# Altium integrated library Oscillator - Crystal.IntLib: 422 symbols (part 1 of 7)
Pins are listed as number, name and electrical type; pins without a type are passive.

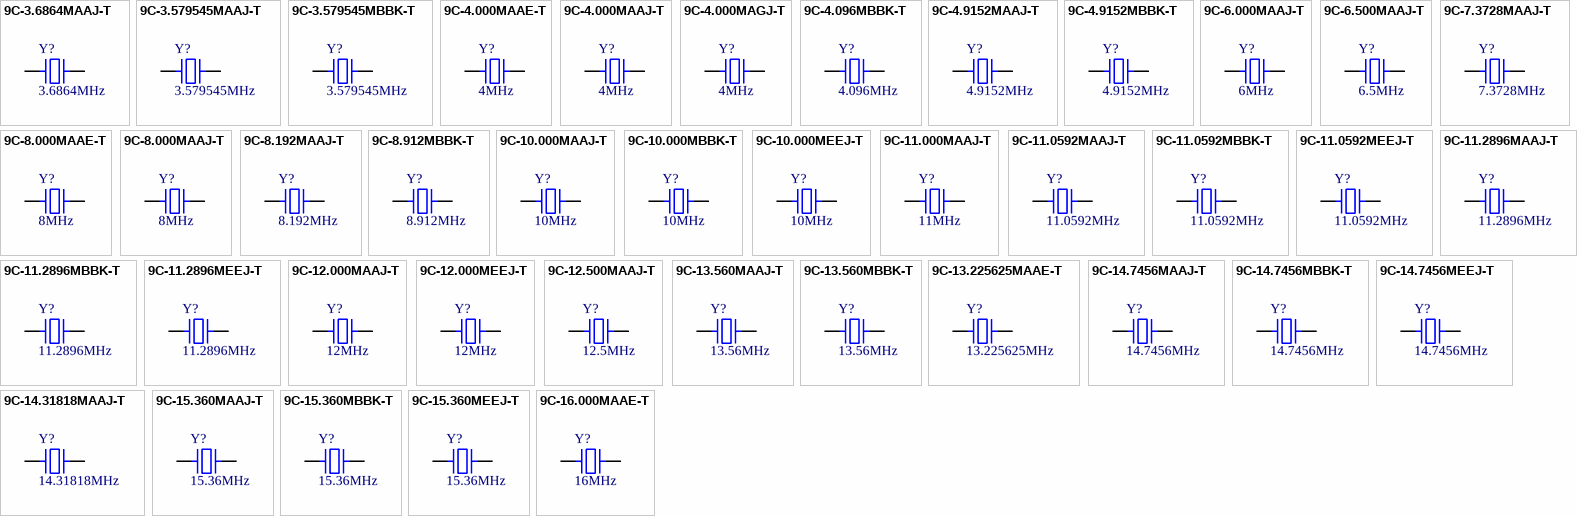
[diagram p0: symbols 9C-3.6864MAAJ-T to 9C-16.000MAAE-T]

## 9C-3.6864MAAJ-T
designator Y?, comment 3.6864MHz
CRYSTAL 3.6864MHZ 18PF SMD; Part Number: 9C-3.6864MAAJ-T; Manufacturer: TXC CORPORATION; Frequency Stability: 30ppm; ESR: 150 Ohm; Operating Mode: Fundamental; PartId: 8671; Supplier 1: Digi-Key; Supplier Part Number 1: 887-1041-2-ND; ComponentLink1Description: Datasheet; ComponentLink1URL: http://www.txccrystal.com/images/pdf/9c.pdf; ComponentLink2Description: Digi-Key Listing; ComponentLink2URL: https://www.digikey.com/product-detail/en/9C-3.6864MAAJ-T/887-1041-2-ND/2118725; Price: 0.224; Type: MHz Crystal; Device Package: HC49/US; Series: 9C; Frequency: 3.6864MHz; Frequency Tolerance: 30ppm; Load Capacitance: 18pF
footprint TXC 9C
pins: 1, 2

## 9C-3.579545MAAJ-T
designator Y?, comment 3.579545MHz
CRYSTAL 3.579545MHZ 18PF SMD; Part Number: 9C-3.579545MAAJ-T; Manufacturer: TXC CORPORATION; Frequency Stability: 30ppm; ESR: 200 Ohm; Operating Mode: Fundamental; PartId: 8668; Supplier 1: Digi-Key; Supplier Part Number 1: 887-1040-2-ND; ComponentLink1Description: Datasheet; ComponentLink1URL: http://www.txccrystal.com/images/pdf/9c.pdf; ComponentLink2Description: Digi-Key Listing; ComponentLink2URL: https://www.digikey.com/product-detail/en/9C-3.579545MAAJ-T/887-1040-2-ND/2118724; Price: 0.224; Type: MHz Crystal; Device Package: HC49/US; Series: 9C; Frequency: 3.579545MHz; Frequency Tolerance: 30ppm; Load Capacitance: 18pF
footprint TXC 9C
pins: 1, 2

## 9C-3.579545MBBK-T
designator Y?, comment 3.579545MHz
CRYSTAL 3.579545MHZ 20PF SMD; Part Number: 9C-3.579545MBBK-T; Manufacturer: TXC CORPORATION; Frequency Stability: 50ppm; ESR: 200 Ohm; Operating Mode: Fundamental; PartId: 8690; Supplier 1: Digi-Key; Supplier Part Number 1: 887-2450-2-ND; ComponentLink1Description: Datasheet; ComponentLink1URL: http://www.txccrystal.com/images/pdf/9c.pdf; ComponentLink2Description: Digi-Key Listing; ComponentLink2URL: https://www.digikey.com/product-detail/en/9C-3.579545MBBK-T/887-2450-2-ND/3521935; Price: 0.192; Type: MHz Crystal; Device Package: HC-49S; Series: 9C; Frequency: 3.579545MHz; Frequency Tolerance: 50ppm; Load Capacitance: 20pF
footprint TXC 9C
pins: 1, 2

## 9C-4.000MAAE-T
designator Y?, comment 4MHz
CRYSTAL 4.0000MHZ 12PF SMD; Part Number: 9C-4.000MAAE-T; Manufacturer: TXC CORPORATION; Frequency Stability: 30ppm; ESR: 150 Ohm; Operating Mode: Fundamental; PartId: 8715; Supplier 1: Digi-Key; Supplier Part Number 1: 887-2462-2-ND; ComponentLink1Description: Datasheet; ComponentLink1URL: http://www.txccrystal.com/images/pdf/9c.pdf; ComponentLink2Description: Digi-Key Listing; ComponentLink2URL: https://www.digikey.com/product-detail/en/9C-4.000MAAE-T/887-2462-2-ND/3674386; Price: 0.208; Type: MHz Crystal; Device Package: HC-49S; Series: 9C; Frequency: 4MHz; Frequency Tolerance: 30ppm; Load Capacitance: 12pF
footprint TXC 9C
pins: 1, 2

## 9C-4.000MAAJ-T
designator Y?, comment 4MHz
CRYSTAL 4.0000MHZ 18PF SMD; Part Number: 9C-4.000MAAJ-T; Manufacturer: TXC CORPORATION; Frequency Stability: 30ppm; ESR: 150 Ohm; Operating Mode: Fundamental; PartId: 8669; Supplier 1: Digi-Key; Supplier Part Number 1: 887-1042-2-ND; ComponentLink1Description: Datasheet; ComponentLink1URL: http://www.txccrystal.com/images/pdf/9c.pdf; ComponentLink2Description: Digi-Key Listing; ComponentLink2URL: https://www.digikey.com/product-detail/en/9C-4.000MAAJ-T/887-1042-2-ND/2118726; Price: 0.224; Type: MHz Crystal; Device Package: HC49/US; Series: 9C; Frequency: 4MHz; Frequency Tolerance: 30ppm; Load Capacitance: 18pF
footprint TXC 9C
pins: 1, 2

## 9C-4.000MAGJ-T
designator Y?, comment 4MHz
CRYSTAL 4.0000MHZ 18PF SMD; Part Number: 9C-4.000MAGJ-T; Manufacturer: TXC CORPORATION; Frequency Stability: 50ppm; Frequency Tolerance: 30ppm; ESR: 150 Ohm; Operating Mode: Fundamental; PartId: 8714; Supplier 1: Digi-Key; Supplier Part Number 1: 887-2463-2-ND; ComponentLink1Description: Datasheet; ComponentLink1URL: http://www.txccrystal.com/images/pdf/9c.pdf; ComponentLink2Description: Digi-Key Listing; ComponentLink2URL: https://www.digikey.com/product-detail/en/9C-4.000MAGJ-T/887-2463-2-ND/4475373; Price: 0.208; Type: MHz Crystal; Device Package: HC-49S; Series: 9C; Frequency: 4MHz; Load Capacitance: 18pF
footprint TXC 9C
pins: 1, 2

## 9C-4.096MBBK-T
designator Y?, comment 4.096MHz
CRYSTAL 4.0960MHZ 20PF SMD; Part Number: 9C-4.096MBBK-T; Manufacturer: TXC CORPORATION; Frequency Stability: 50ppm; ESR: 150 Ohm; Operating Mode: Fundamental; PartId: 8702; Supplier 1: Digi-Key; Supplier Part Number 1: 887-1828-2-ND; ComponentLink1Description: Datasheet; ComponentLink1URL: http://www.txccrystal.com/images/pdf/9c.pdf; ComponentLink2Description: Digi-Key Listing; ComponentLink2URL: https://www.digikey.com/product-detail/en/9C-4.096MBBK-T/887-1828-2-ND/3585856; Price: 0.192; Type: MHz Crystal; Device Package: HC-49S; Series: 9C; Frequency: 4.096MHz; Frequency Tolerance: 50ppm; Load Capacitance: 20pF
footprint TXC 9C
pins: 1, 2

## 9C-4.9152MAAJ-T
designator Y?, comment 4.9152MHz
CRYSTAL 4.9152MHZ 18PF SMD; Part Number: 9C-4.9152MAAJ-T; Manufacturer: TXC CORPORATION; Frequency Stability: 30ppm; ESR: 150 Ohm; Operating Mode: Fundamental; PartId: 8719; Supplier 1: Digi-Key; Supplier Part Number 1: 887-1044-2-ND; ComponentLink1Description: Datasheet; ComponentLink1URL: http://www.txccrystal.com/images/pdf/9c.pdf; ComponentLink2Description: Digi-Key Listing; ComponentLink2URL: https://www.digikey.com/product-detail/en/9C-4.9152MAAJ-T/887-1044-2-ND/2118728; Price: 0.224; Type: MHz Crystal; Device Package: HC49/US; Series: 9C; Frequency: 4.9152MHz; Frequency Tolerance: 30ppm; Load Capacitance: 18pF
footprint TXC 9C
pins: 1, 2

## 9C-4.9152MBBK-T
designator Y?, comment 4.9152MHz
CRYSTAL 4.9152MHZ 20PF SMD; Part Number: 9C-4.9152MBBK-T; Manufacturer: TXC CORPORATION; Frequency Stability: 50ppm; ESR: 150 Ohm; Operating Mode: Fundamental; PartId: 8687; Supplier 1: Digi-Key; Supplier Part Number 1: 887-1829-2-ND; ComponentLink1Description: Datasheet; ComponentLink1URL: http://www.txccrystal.com/images/pdf/9c.pdf; ComponentLink2Description: Digi-Key Listing; ComponentLink2URL: https://www.digikey.com/product-detail/en/9C-4.9152MBBK-T/887-1829-2-ND/3585865; Price: 0.192; Type: MHz Crystal; Device Package: HC-49S; Series: 9C; Frequency: 4.9152MHz; Frequency Tolerance: 50ppm; Load Capacitance: 20pF
footprint TXC 9C
pins: 1, 2

## 9C-6.000MAAJ-T
designator Y?, comment 6MHz
CRYSTAL 6.0000MHZ 18PF SMD; Part Number: 9C-6.000MAAJ-T; Manufacturer: TXC CORPORATION; Frequency Stability: 30ppm; ESR: 80 Ohm; Operating Mode: Fundamental; PartId: 8678; Supplier 1: Digi-Key; Supplier Part Number 1: 887-1045-2-ND; ComponentLink1Description: Datasheet; ComponentLink1URL: http://www.txccrystal.com/images/pdf/9c.pdf; ComponentLink2Description: Digi-Key Listing; ComponentLink2URL: https://www.digikey.com/product-detail/en/9C-6.000MAAJ-T/887-1045-2-ND/2118729; Price: 0.224; Type: MHz Crystal; Device Package: HC49/US; Series: 9C; Frequency: 6MHz; Frequency Tolerance: 30ppm; Load Capacitance: 18pF
footprint TXC 9C
pins: 1, 2

## 9C-6.500MAAJ-T
designator Y?, comment 6.5MHz
CRYSTAL 6.5000MHZ 18PF SMD; Part Number: 9C-6.500MAAJ-T; Manufacturer: TXC CORPORATION; Frequency Stability: 30ppm; ESR: 80 Ohm; Operating Mode: Fundamental; PartId: 8716; Supplier 1: Digi-Key; Supplier Part Number 1: 887-2470-2-ND; ComponentLink1Description: Datasheet; ComponentLink1URL: http://www.txccrystal.com/images/pdf/9c.pdf; ComponentLink2Description: Digi-Key Listing; ComponentLink2URL: https://www.digikey.com/product-detail/en/9C-6.500MAAJ-T/887-2470-2-ND/4475377; Price: 0.224; Type: MHz Crystal; Device Package: HC-49S; Series: 9C; Frequency: 6.5MHz; Frequency Tolerance: 30ppm; Load Capacitance: 18pF
footprint TXC 9C
pins: 1, 2

## 9C-7.3728MAAJ-T
designator Y?, comment 7.3728MHz
CRYSTAL 7.3728MHZ 18PF SMD; Part Number: 9C-7.3728MAAJ-T; Manufacturer: TXC CORPORATION; Frequency Stability: 30ppm; ESR: 80 Ohm; Operating Mode: Fundamental; PartId: 8679; Supplier 1: Digi-Key; Supplier Part Number 1: 887-1046-2-ND; ComponentLink1Description: Datasheet; ComponentLink1URL: http://www.txccrystal.com/images/pdf/9c.pdf; ComponentLink2Description: Digi-Key Listing; ComponentLink2URL: https://www.digikey.com/product-detail/en/9C-7.3728MAAJ-T/887-1046-2-ND/2118730; Price: 0.224; Type: MHz Crystal; Device Package: HC49/US; Series: 9C; Frequency: 7.3728MHz; Frequency Tolerance: 30ppm; Load Capacitance: 18pF
footprint TXC 9C
pins: 1, 2

## 9C-8.000MAAE-T
designator Y?, comment 8MHz
CRYSTAL 8.0000MHZ 12PF SMD; Part Number: 9C-8.000MAAE-T; Manufacturer: TXC CORPORATION; Frequency Stability: 30ppm; ESR: 80 Ohm; Operating Mode: Fundamental; PartId: 8665; Supplier 1: Digi-Key; Supplier Part Number 1: 887-2473-2-ND; ComponentLink1Description: Datasheet; ComponentLink1URL: http://www.txccrystal.com/images/pdf/9c.pdf; ComponentLink2Description: Digi-Key Listing; ComponentLink2URL: https://www.digikey.com/product-detail/en/9C-8.000MAAE-T/887-2473-2-ND/3674400; Price: 0.208; Type: MHz Crystal; Device Package: HC-49S; Series: 9C; Frequency: 8MHz; Frequency Tolerance: 30ppm; Load Capacitance: 12pF
footprint TXC 9C
pins: 1, 2

## 9C-8.000MAAJ-T
designator Y?, comment 8MHz
CRYSTAL 8.0000MHZ 18PF SMD; Part Number: 9C-8.000MAAJ-T; Manufacturer: TXC CORPORATION; Frequency Stability: 30ppm; ESR: 80 Ohm; Operating Mode: Fundamental; PartId: 8661; Supplier 1: Digi-Key; Supplier Part Number 1: 887-1048-2-ND; ComponentLink1Description: Datasheet; ComponentLink1URL: http://www.txccrystal.com/images/pdf/9c.pdf; ComponentLink2Description: Digi-Key Listing; ComponentLink2URL: https://www.digikey.com/product-detail/en/9C-8.000MAAJ-T/887-1048-2-ND/2118732; Price: 0.224; Type: MHz Crystal; Device Package: HC49/US; Series: 9C; Frequency: 8MHz; Frequency Tolerance: 30ppm; Load Capacitance: 18pF
footprint TXC 9C
pins: 1, 2

## 9C-8.192MAAJ-T
designator Y?, comment 8.192MHz
CRYSTAL 8.1920MHZ 18PF SMD; Part Number: 9C-8.192MAAJ-T; Manufacturer: TXC CORPORATION; Frequency Stability: 30ppm; ESR: 80 Ohm; Operating Mode: Fundamental; PartId: 8676; Supplier 1: Digi-Key; Supplier Part Number 1: 887-1417-2-ND; ComponentLink1Description: Datasheet; ComponentLink1URL: http://www.txccrystal.com/images/pdf/9c.pdf; ComponentLink2Description: Digi-Key Listing; ComponentLink2URL: https://www.digikey.com/product-detail/en/9C-8.192MAAJ-T/887-1417-2-ND/2207837; Price: 0.224; Type: MHz Crystal; Device Package: HC49/US; Series: 9C; Frequency: 8.192MHz; Frequency Tolerance: 30ppm; Load Capacitance: 18pF
footprint TXC 9C
pins: 1, 2

## 9C-8.912MBBK-T
designator Y?, comment 8.912MHz
CRYSTAL 8.9120MHZ 20PF SMD; Part Number: 9C-8.912MBBK-T; Manufacturer: TXC CORPORATION; Frequency Stability: 50ppm; ESR: 80 Ohm; Operating Mode: Fundamental; PartId: 8696; Supplier 1: Digi-Key; Supplier Part Number 1: 887-1830-2-ND; ComponentLink1Description: Datasheet; ComponentLink1URL: http://www.txccrystal.com/images/pdf/9c.pdf; ComponentLink2Description: Digi-Key Listing; ComponentLink2URL: https://www.digikey.com/product-detail/en/9C-8.912MBBK-T/887-1830-2-ND/3585861; Price: 0.192; Type: MHz Crystal; Device Package: HC-49S; Series: 9C; Frequency: 8.912MHz; Frequency Tolerance: 50ppm; Load Capacitance: 20pF
footprint TXC 9C
pins: 1, 2

## 9C-10.000MAAJ-T
designator Y?, comment 10MHz
CRYSTAL 10.0000MHZ 18PF SMD; Part Number: 9C-10.000MAAJ-T; Manufacturer: TXC CORPORATION; Frequency Stability: 30ppm; ESR: 40 Ohm; Operating Mode: Fundamental; PartId: 8677; Supplier 1: Digi-Key; Supplier Part Number 1: 887-1050-2-ND; ComponentLink1Description: Datasheet; ComponentLink1URL: http://www.txccrystal.com/images/pdf/9c.pdf; ComponentLink2Description: Digi-Key Listing; ComponentLink2URL: https://www.digikey.com/product-detail/en/9C-10.000MAAJ-T/887-1050-2-ND/2118734; Price: 0.224; Type: MHz Crystal; Device Package: HC49/US; Series: 9C; Frequency: 10MHz; Frequency Tolerance: 30ppm; Load Capacitance: 18pF
footprint TXC 9C
pins: 1, 2

## 9C-10.000MBBK-T
designator Y?, comment 10MHz
CRYSTAL 10.0000MHZ 20PF SMD; Part Number: 9C-10.000MBBK-T; Manufacturer: TXC CORPORATION; Frequency Stability: 50ppm; ESR: 40 Ohm; Operating Mode: Fundamental; PartId: 8700; Supplier 1: Digi-Key; Supplier Part Number 1: 887-1941-2-ND; ComponentLink1Description: Datasheet; ComponentLink1URL: http://www.txccrystal.com/images/pdf/9c.pdf; ComponentLink2Description: Digi-Key Listing; ComponentLink2URL: https://www.digikey.com/product-detail/en/9C-10.000MBBK-T/887-1941-2-ND/3522075; Price: 0.192; Type: MHz Crystal; Device Package: HC-49S; Series: 9C; Frequency: 10MHz; Frequency Tolerance: 50ppm; Load Capacitance: 20pF
footprint TXC 9C
pins: 1, 2

## 9C-10.000MEEJ-T
designator Y?, comment 10MHz
CRYSTAL 10.0000MHZ 18PF SMD; Part Number: 9C-10.000MEEJ-T; Manufacturer: TXC CORPORATION; Frequency Stability: 10ppm; ESR: 40 Ohm; Operating Mode: Fundamental; PartId: 8682; Supplier 1: Digi-Key; Supplier Part Number 1: 887-1265-2-ND; ComponentLink1Description: Datasheet; ComponentLink1URL: http://www.txccrystal.com/images/pdf/9c-accuracy.pdf; ComponentLink2Description: Digi-Key Listing; ComponentLink2URL: https://www.digikey.com/product-detail/en/9C-10.000MEEJ-T/887-1265-2-ND/2207685; Price: 0.288; Type: MHz Crystal; Device Package: HC49/US; Series: 9C; Frequency: 10MHz; Frequency Tolerance: 10ppm; Load Capacitance: 18pF
footprint TXC 9C
pins: 1, 2

## 9C-11.000MAAJ-T
designator Y?, comment 11MHz
CRYSTAL 11.0000MHZ 18PF SMD; Part Number: 9C-11.000MAAJ-T; Manufacturer: TXC CORPORATION; Frequency Stability: 30ppm; ESR: 40 Ohm; Operating Mode: Fundamental; PartId: 8717; Supplier 1: Digi-Key; Supplier Part Number 1: 887-2410-2-ND; ComponentLink1Description: Datasheet; ComponentLink1URL: http://www.txccrystal.com/images/pdf/9c.pdf; ComponentLink2Description: Digi-Key Listing; ComponentLink2URL: https://www.digikey.com/product-detail/en/9C-11.000MAAJ-T/887-2410-2-ND/4475344; Price: 0.224; Type: MHz Crystal; Device Package: HC-49S; Series: 9C; Frequency: 11MHz; Frequency Tolerance: 30ppm; Load Capacitance: 18pF
footprint TXC 9C
pins: 1, 2

## 9C-11.0592MAAJ-T
designator Y?, comment 11.0592MHz
CRYSTAL 11.0592MHZ 18PF SMD; Part Number: 9C-11.0592MAAJ-T; Manufacturer: TXC CORPORATION; Frequency Stability: 30ppm; ESR: 40 Ohm; Operating Mode: Fundamental; PartId: 8720; Supplier 1: Digi-Key; Supplier Part Number 1: 887-1051-2-ND; ComponentLink1Description: Datasheet; ComponentLink1URL: http://www.txccrystal.com/images/pdf/9c.pdf; ComponentLink2Description: Digi-Key Listing; ComponentLink2URL: https://www.digikey.com/product-detail/en/9C-11.0592MAAJ-T/887-1051-2-ND/2118735; Price: 0.224; Type: MHz Crystal; Device Package: HC49/US; Series: 9C; Frequency: 11.0592MHz; Frequency Tolerance: 30ppm; Load Capacitance: 18pF
footprint TXC 9C
pins: 1, 2

## 9C-11.0592MBBK-T
designator Y?, comment 11.0592MHz
CRYSTAL 11.0592MHZ 20PF SMD; Part Number: 9C-11.0592MBBK-T; Manufacturer: TXC CORPORATION; Frequency Stability: 50ppm; ESR: 40 Ohm; Operating Mode: Fundamental; PartId: 8688; Supplier 1: Digi-Key; Supplier Part Number 1: 887-1942-2-ND; ComponentLink1Description: Datasheet; ComponentLink1URL: http://www.txccrystal.com/images/pdf/9c.pdf; ComponentLink2Description: Digi-Key Listing; ComponentLink2URL: https://www.digikey.com/product-detail/en/9C-11.0592MBBK-T/887-1942-2-ND/3522081; Price: 0.192; Type: MHz Crystal; Device Package: HC-49S; Series: 9C; Frequency: 11.0592MHz; Frequency Tolerance: 50ppm; Load Capacitance: 20pF
footprint TXC 9C
pins: 1, 2

## 9C-11.0592MEEJ-T
designator Y?, comment 11.0592MHz
CRYSTAL 11.0592MHZ 18PF SMD; Part Number: 9C-11.0592MEEJ-T; Manufacturer: TXC CORPORATION; Frequency Stability: 10ppm; ESR: 40 Ohm; Operating Mode: Fundamental; PartId: 8727; Supplier 1: Digi-Key; Supplier Part Number 1: 887-1266-2-ND; ComponentLink1Description: Datasheet; ComponentLink1URL: http://www.txccrystal.com/images/pdf/9c-accuracy.pdf; ComponentLink2Description: Digi-Key Listing; ComponentLink2URL: https://www.digikey.com/product-detail/en/9C-11.0592MEEJ-T/887-1266-2-ND/2207686; Price: 0.288; Type: MHz Crystal; Device Package: HC49/US; Series: 9C; Frequency: 11.0592MHz; Frequency Tolerance: 10ppm; Load Capacitance: 18pF
footprint TXC 9C
pins: 1, 2

## 9C-11.2896MAAJ-T
designator Y?, comment 11.2896MHz
CRYSTAL 11.2896MHZ 18PF SMD; Part Number: 9C-11.2896MAAJ-T; Manufacturer: TXC CORPORATION; Frequency Stability: 30ppm; ESR: 40 Ohm; Operating Mode: Fundamental; PartId: 8672; Supplier 1: Digi-Key; Supplier Part Number 1: 887-1052-2-ND; ComponentLink1Description: Datasheet; ComponentLink1URL: http://www.txccrystal.com/images/pdf/9c.pdf; ComponentLink2Description: Digi-Key Listing; ComponentLink2URL: https://www.digikey.com/product-detail/en/9C-11.2896MAAJ-T/887-1052-2-ND/2118736; Price: 0.224; Type: MHz Crystal; Device Package: HC49/US; Series: 9C; Frequency: 11.2896MHz; Frequency Tolerance: 30ppm; Load Capacitance: 18pF
footprint TXC 9C
pins: 1, 2

## 9C-11.2896MBBK-T
designator Y?, comment 11.2896MHz
CRYSTAL 11.2896MHZ 20PF SMD; Part Number: 9C-11.2896MBBK-T; Manufacturer: TXC CORPORATION; Frequency Stability: 50ppm; ESR: 40 Ohm; Operating Mode: Fundamental; PartId: 8701; Supplier 1: Digi-Key; Supplier Part Number 1: 887-2412-2-ND; ComponentLink1Description: Datasheet; ComponentLink1URL: http://www.txccrystal.com/images/pdf/9c.pdf; ComponentLink2Description: Digi-Key Listing; ComponentLink2URL: https://www.digikey.com/product-detail/en/9C-11.2896MBBK-T/887-2412-2-ND/3522085; Price: 0.192; Type: MHz Crystal; Device Package: HC-49S; Series: 9C; Frequency: 11.2896MHz; Frequency Tolerance: 50ppm; Load Capacitance: 20pF
footprint TXC 9C
pins: 1, 2

## 9C-11.2896MEEJ-T
designator Y?, comment 11.2896MHz
CRYSTAL 11.2896MHZ 18PF SMD; Part Number: 9C-11.2896MEEJ-T; Manufacturer: TXC CORPORATION; Frequency Stability: 10ppm; ESR: 40 Ohm; Operating Mode: Fundamental; PartId: 8729; Supplier 1: Digi-Key; Supplier Part Number 1: 887-1267-2-ND; ComponentLink1Description: Datasheet; ComponentLink1URL: http://www.txccrystal.com/images/pdf/9c-accuracy.pdf; ComponentLink2Description: Digi-Key Listing; ComponentLink2URL: https://www.digikey.com/product-detail/en/9C-11.2896MEEJ-T/887-1267-2-ND/2207687; Price: 0.288; Type: MHz Crystal; Device Package: HC49/US; Series: 9C; Frequency: 11.2896MHz; Frequency Tolerance: 10ppm; Load Capacitance: 18pF
footprint TXC 9C
pins: 1, 2

## 9C-12.000MAAJ-T
designator Y?, comment 12MHz
CRYSTAL 12.0000MHZ 18PF SMD; Part Number: 9C-12.000MAAJ-T; Manufacturer: TXC CORPORATION; Frequency Stability: 30ppm; ESR: 40 Ohm; Operating Mode: Fundamental; PartId: 8658; Supplier 1: Digi-Key; Supplier Part Number 1: 887-1053-2-ND; ComponentLink1Description: Datasheet; ComponentLink1URL: http://www.txccrystal.com/images/pdf/9c.pdf; ComponentLink2Description: Digi-Key Listing; ComponentLink2URL: https://www.digikey.com/product-detail/en/9C-12.000MAAJ-T/887-1053-2-ND/2118737; Price: 0.224; Type: MHz Crystal; Device Package: HC49/US; Series: 9C; Frequency: 12MHz; Frequency Tolerance: 30ppm; Load Capacitance: 18pF
footprint TXC 9C
pins: 1, 2

## 9C-12.000MEEJ-T
designator Y?, comment 12MHz
CRYSTAL 12.0000MHZ 18PF SMD; Part Number: 9C-12.000MEEJ-T; Manufacturer: TXC CORPORATION; Frequency Stability: 10ppm; ESR: 40 Ohm; Operating Mode: Fundamental; PartId: 8683; Supplier 1: Digi-Key; Supplier Part Number 1: 887-1268-2-ND; ComponentLink1Description: Datasheet; ComponentLink1URL: http://www.txccrystal.com/images/pdf/9c-accuracy.pdf; ComponentLink2Description: Digi-Key Listing; ComponentLink2URL: https://www.digikey.com/product-detail/en/9C-12.000MEEJ-T/887-1268-2-ND/2207688; Price: 0.288; Type: MHz Crystal; Device Package: HC49/US; Series: 9C; Frequency: 12MHz; Frequency Tolerance: 10ppm; Load Capacitance: 18pF
footprint TXC 9C
pins: 1, 2

## 9C-12.500MAAJ-T
designator Y?, comment 12.5MHz
CRYSTAL 12.5000MHZ 18PF SMD; Part Number: 9C-12.500MAAJ-T; Manufacturer: TXC CORPORATION; Frequency Stability: 30ppm; ESR: 40 Ohm; Operating Mode: Fundamental; PartId: 8725; Supplier 1: Digi-Key; Supplier Part Number 1: 887-2416-2-ND; ComponentLink1Description: Datasheet; ComponentLink1URL: http://www.txccrystal.com/images/pdf/9c.pdf; ComponentLink2Description: Digi-Key Listing; ComponentLink2URL: https://www.digikey.com/product-detail/en/9C-12.500MAAJ-T/887-2416-2-ND/4475346; Price: 0.224; Type: MHz Crystal; Device Package: HC-49S; Series: 9C; Frequency: 12.5MHz; Frequency Tolerance: 30ppm; Load Capacitance: 18pF
footprint TXC 9C
pins: 1, 2

## 9C-13.560MAAJ-T
designator Y?, comment 13.56MHz
CRYSTAL 13.5600MHZ 18PF SMD; Part Number: 9C-13.560MAAJ-T; Manufacturer: TXC CORPORATION; Frequency Stability: 30ppm; ESR: 40 Ohm; Operating Mode: Fundamental; PartId: 8659; Supplier 1: Digi-Key; Supplier Part Number 1: 887-1055-2-ND; ComponentLink1Description: Datasheet; ComponentLink1URL: http://www.txccrystal.com/images/pdf/9c.pdf; ComponentLink2Description: Digi-Key Listing; ComponentLink2URL: https://www.digikey.com/product-detail/en/9C-13.560MAAJ-T/887-1055-2-ND/2118739; Price: 0.224; Type: MHz Crystal; Device Package: HC49/US; Series: 9C; Frequency: 13.56MHz; Frequency Tolerance: 30ppm; Load Capacitance: 18pF
footprint TXC 9C
pins: 1, 2

## 9C-13.560MBBK-T
designator Y?, comment 13.56MHz
CRYSTAL 13.5600MHZ 20PF SMD; Part Number: 9C-13.560MBBK-T; Manufacturer: TXC CORPORATION; Frequency Stability: 50ppm; ESR: 40 Ohm; Operating Mode: Fundamental; PartId: 8706; Supplier 1: Digi-Key; Supplier Part Number 1: 887-2420-2-ND; ComponentLink1Description: Datasheet; ComponentLink1URL: http://www.txccrystal.com/images/pdf/9c.pdf; ComponentLink2Description: Digi-Key Listing; ComponentLink2URL: https://www.digikey.com/product-detail/en/9C-13.560MBBK-T/887-2420-2-ND/3521926; Price: 0.192; Type: MHz Crystal; Device Package: HC-49S; Series: 9C; Frequency: 13.56MHz; Frequency Tolerance: 50ppm; Load Capacitance: 20pF
footprint TXC 9C
pins: 1, 2

## 9C-13.225625MAAE-T
designator Y?, comment 13.225625MHz
CRYSTAL 13.225625MHZ 12PF SMD; Part Number: 9C-13.225625MAAE-T; Manufacturer: TXC CORPORATION; Frequency Stability: 30ppm; ESR: 40 Ohm; Operating Mode: Fundamental; PartId: 8707; Supplier 1: Digi-Key; Supplier Part Number 1: 887-2418-2-ND; ComponentLink1Description: Datasheet; ComponentLink1URL: http://www.txccrystal.com/images/pdf/9c.pdf; ComponentLink2Description: Digi-Key Listing; ComponentLink2URL: https://www.digikey.com/product-detail/en/9C-13.225625MAAE-T/887-2418-2-ND/4475348; Price: 0.208; Type: MHz Crystal; Device Package: HC-49S; Series: 9C; Frequency: 13.225625MHz; Frequency Tolerance: 30ppm; Load Capacitance: 12pF
footprint TXC 9C
pins: 1, 2

## 9C-14.7456MAAJ-T
designator Y?, comment 14.7456MHz
CRYSTAL 14.7456MHZ 18PF SMD; Part Number: 9C-14.7456MAAJ-T; Manufacturer: TXC CORPORATION; Frequency Stability: 30ppm; ESR: 30 Ohm; Operating Mode: Fundamental; PartId: 8724; Supplier 1: Digi-Key; Supplier Part Number 1: 887-1057-2-ND; ComponentLink1Description: Datasheet; ComponentLink1URL: http://www.txccrystal.com/images/pdf/9c.pdf; ComponentLink2Description: Digi-Key Listing; ComponentLink2URL: https://www.digikey.com/product-detail/en/9C-14.7456MAAJ-T/887-1057-2-ND/2118741; Price: 0.224; Type: MHz Crystal; Device Package: HC49/US; Series: 9C; Frequency: 14.7456MHz; Frequency Tolerance: 30ppm; Load Capacitance: 18pF
footprint TXC 9C
pins: 1, 2

## 9C-14.7456MBBK-T
designator Y?, comment 14.7456MHz
CRYSTAL 14.7456MHZ 20PF SMD; Part Number: 9C-14.7456MBBK-T; Manufacturer: TXC CORPORATION; Frequency Stability: 50ppm; ESR: 30 Ohm; Operating Mode: Fundamental; PartId: 8704; Supplier 1: Digi-Key; Supplier Part Number 1: 887-1943-2-ND; ComponentLink1Description: Datasheet; ComponentLink1URL: http://www.txccrystal.com/images/pdf/9c.pdf; ComponentLink2Description: Digi-Key Listing; ComponentLink2URL: https://www.digikey.com/product-detail/en/9C-14.7456MBBK-T/887-1943-2-ND/3521950; Price: 0.192; Type: MHz Crystal; Device Package: HC-49S; Series: 9C; Frequency: 14.7456MHz; Frequency Tolerance: 50ppm; Load Capacitance: 20pF
footprint TXC 9C
pins: 1, 2

## 9C-14.7456MEEJ-T
designator Y?, comment 14.7456MHz
CRYSTAL 14.7456MHZ 18PF SMD; Part Number: 9C-14.7456MEEJ-T; Manufacturer: TXC CORPORATION; Frequency Stability: 10ppm; ESR: 30 Ohm; Operating Mode: Fundamental; PartId: 8726; Supplier 1: Digi-Key; Supplier Part Number 1: 887-1272-2-ND; ComponentLink1Description: Datasheet; ComponentLink1URL: http://www.txccrystal.com/images/pdf/9c-accuracy.pdf; ComponentLink2Description: Digi-Key Listing; ComponentLink2URL: https://www.digikey.com/product-detail/en/9C-14.7456MEEJ-T/887-1272-2-ND/2207692; Price: 0.288; Type: MHz Crystal; Device Package: HC49/US; Series: 9C; Frequency: 14.7456MHz; Frequency Tolerance: 10ppm; Load Capacitance: 18pF
footprint TXC 9C
pins: 1, 2

## 9C-14.31818MAAJ-T
designator Y?, comment 14.31818MHz
CRYSTAL 14.31818MHZ 18PF SMD; Part Number: 9C-14.31818MAAJ-T; Manufacturer: TXC CORPORATION; Frequency Stability: 30ppm; ESR: 30 Ohm; Operating Mode: Fundamental; PartId: 8723; Supplier 1: Digi-Key; Supplier Part Number 1: 887-1056-2-ND; ComponentLink1Description: Datasheet; ComponentLink1URL: http://www.txccrystal.com/images/pdf/9c.pdf; ComponentLink2Description: Digi-Key Listing; ComponentLink2URL: https://www.digikey.com/product-detail/en/9C-14.31818MAAJ-T/887-1056-2-ND/2118740; Price: 0.224; Type: MHz Crystal; Device Package: HC49/US; Series: 9C; Frequency: 14.31818MHz; Frequency Tolerance: 30ppm; Load Capacitance: 18pF
footprint TXC 9C
pins: 1, 2

## 9C-15.360MAAJ-T
designator Y?, comment 15.36MHz
CRYSTAL 15.3600MHZ 18PF SMD; Part Number: 9C-15.360MAAJ-T; Manufacturer: TXC CORPORATION; Frequency Stability: 30ppm; ESR: 30 Ohm; Operating Mode: Fundamental; PartId: 8692; Supplier 1: Digi-Key; Supplier Part Number 1: 887-1058-2-ND; ComponentLink1Description: Datasheet; ComponentLink1URL: http://www.txccrystal.com/images/pdf/9c.pdf; ComponentLink2Description: Digi-Key Listing; ComponentLink2URL: https://www.digikey.com/product-detail/en/9C-15.360MAAJ-T/887-1058-2-ND/2118742; Price: 0.224; Type: MHz Crystal; Device Package: HC49/US; Series: 9C; Frequency: 15.36MHz; Frequency Tolerance: 30ppm; Load Capacitance: 18pF
footprint TXC 9C
pins: 1, 2

## 9C-15.360MBBK-T
designator Y?, comment 15.36MHz
CRYSTAL 15.3600MHZ 20PF SMD; Part Number: 9C-15.360MBBK-T; Manufacturer: TXC CORPORATION; Frequency Stability: 50ppm; ESR: 30 Ohm; Operating Mode: Fundamental; PartId: 8703; Supplier 1: Digi-Key; Supplier Part Number 1: 887-1944-2-ND; ComponentLink1Description: Datasheet; ComponentLink1URL: http://www.txccrystal.com/images/pdf/9c.pdf; ComponentLink2Description: Digi-Key Listing; ComponentLink2URL: https://www.digikey.com/product-detail/en/9C-15.360MBBK-T/887-1944-2-ND/3521931; Price: 0.192; Type: MHz Crystal; Device Package: HC-49S; Series: 9C; Frequency: 15.36MHz; Frequency Tolerance: 50ppm; Load Capacitance: 20pF
footprint TXC 9C
pins: 1, 2

## 9C-15.360MEEJ-T
designator Y?, comment 15.36MHz
CRYSTAL 15.3600MHZ 18PF SMD; Part Number: 9C-15.360MEEJ-T; Manufacturer: TXC CORPORATION; Frequency Stability: 10ppm; ESR: 30 Ohm; Operating Mode: Fundamental; PartId: 8695; Supplier 1: Digi-Key; Supplier Part Number 1: 887-1273-2-ND; ComponentLink1Description: Datasheet; ComponentLink1URL: http://www.txccrystal.com/images/pdf/9c-accuracy.pdf; ComponentLink2Description: Digi-Key Listing; ComponentLink2URL: https://www.digikey.com/product-detail/en/9C-15.360MEEJ-T/887-1273-2-ND/2207693; Price: 0.288; Type: MHz Crystal; Device Package: HC49/US; Series: 9C; Frequency: 15.36MHz; Frequency Tolerance: 10ppm; Load Capacitance: 18pF
footprint TXC 9C
pins: 1, 2

## 9C-16.000MAAE-T
designator Y?, comment 16MHz
CRYSTAL 16.0000MHZ 12PF SMD; Part Number: 9C-16.000MAAE-T; Manufacturer: TXC CORPORATION; Frequency Stability: 30ppm; ESR: 30 Ohm; Operating Mode: Fundamental; PartId: 8666; Supplier 1: Digi-Key; Supplier Part Number 1: 887-2423-2-ND; ComponentLink1Description: Datasheet; ComponentLink1URL: http://www.txccrystal.com/images/pdf/9c.pdf; ComponentLink2Description: Digi-Key Listing; ComponentLink2URL: https://www.digikey.com/product-detail/en/9C-16.000MAAE-T/887-2423-2-ND/3674372; Price: 0.208; Type: MHz Crystal; Device Package: HC-49S; Series: 9C; Frequency: 16MHz; Frequency Tolerance: 30ppm; Load Capacitance: 12pF
footprint TXC 9C
pins: 1, 2

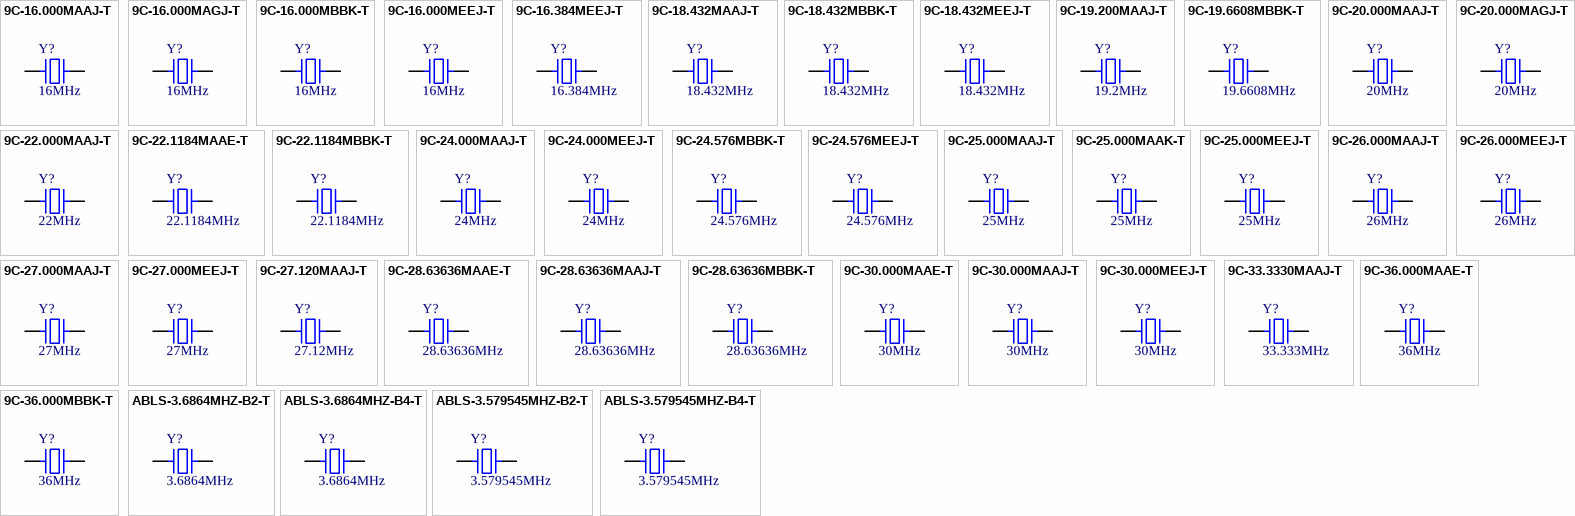
[diagram p1: symbols 9C-16.000MAAJ-T to ABLS-3.579545MHZ-B4-T]

## 9C-16.000MAAJ-T
designator Y?, comment 16MHz
CRYSTAL 16.0000MHZ 18PF SMD; Part Number: 9C-16.000MAAJ-T; Manufacturer: TXC CORPORATION; Frequency Stability: 30ppm; ESR: 30 Ohm; Operating Mode: Fundamental; PartId: 8662; Supplier 1: Digi-Key; Supplier Part Number 1: 887-1059-2-ND; ComponentLink1Description: Datasheet; ComponentLink1URL: http://www.txccrystal.com/images/pdf/9c.pdf; ComponentLink2Description: Digi-Key Listing; ComponentLink2URL: https://www.digikey.com/product-detail/en/9C-16.000MAAJ-T/887-1059-2-ND/2118743; Price: 0.224; Type: MHz Crystal; Device Package: HC49/US; Series: 9C; Frequency: 16MHz; Frequency Tolerance: 30ppm; Load Capacitance: 18pF
footprint TXC 9C
pins: 1, 2

## 9C-16.000MAGJ-T
designator Y?, comment 16MHz
CRYSTAL 16.0000MHZ 18PF SMD; Part Number: 9C-16.000MAGJ-T; Manufacturer: TXC CORPORATION; Frequency Stability: 50ppm; Frequency Tolerance: 30ppm; ESR: 30 Ohm; Operating Mode: Fundamental; PartId: 8691; Supplier 1: Digi-Key; Supplier Part Number 1: 887-2424-2-ND; ComponentLink1Description: Datasheet; ComponentLink1URL: http://www.txccrystal.com/images/pdf/9c.pdf; ComponentLink2Description: Digi-Key Listing; ComponentLink2URL: https://www.digikey.com/product-detail/en/9C-16.000MAGJ-T/887-2424-2-ND/4475352; Price: 0.208; Type: MHz Crystal; Device Package: HC-49S; Series: 9C; Frequency: 16MHz; Load Capacitance: 18pF
footprint TXC 9C
pins: 1, 2

## 9C-16.000MBBK-T
designator Y?, comment 16MHz
CRYSTAL 16.0000MHZ 20PF SMD; Part Number: 9C-16.000MBBK-T; Manufacturer: TXC CORPORATION; Frequency Stability: 50ppm; ESR: 30 Ohm; Operating Mode: Fundamental; PartId: 8664; Supplier 1: Digi-Key; Supplier Part Number 1: 887-2425-2-ND; ComponentLink1Description: Datasheet; ComponentLink1URL: http://www.txccrystal.com/images/pdf/9c.pdf; ComponentLink2Description: Digi-Key Listing; ComponentLink2URL: https://www.digikey.com/product-detail/en/9C-16.000MBBK-T/887-2425-2-ND/3521964; Price: 0.192; Type: MHz Crystal; Device Package: HC-49S; Series: 9C; Frequency: 16MHz; Frequency Tolerance: 50ppm; Load Capacitance: 20pF
footprint TXC 9C
pins: 1, 2

## 9C-16.000MEEJ-T
designator Y?, comment 16MHz
CRYSTAL 16.0000MHZ 18PF SMD; Part Number: 9C-16.000MEEJ-T; Manufacturer: TXC CORPORATION; Frequency Stability: 10ppm; ESR: 30 Ohm; Operating Mode: Fundamental; PartId: 8684; Supplier 1: Digi-Key; Supplier Part Number 1: 887-1274-2-ND; ComponentLink1Description: Datasheet; ComponentLink1URL: http://www.txccrystal.com/images/pdf/9c-accuracy.pdf; ComponentLink2Description: Digi-Key Listing; ComponentLink2URL: https://www.digikey.com/product-detail/en/9C-16.000MEEJ-T/887-1274-2-ND/2207694; Price: 0.288; Type: MHz Crystal; Device Package: HC49/US; Series: 9C; Frequency: 16MHz; Frequency Tolerance: 10ppm; Load Capacitance: 18pF
footprint TXC 9C
pins: 1, 2

## 9C-16.384MEEJ-T
designator Y?, comment 16.384MHz
CRYSTAL 16.3840MHZ 18PF SMD; Part Number: 9C-16.384MEEJ-T; Manufacturer: TXC CORPORATION; Frequency Stability: 10ppm; ESR: 30 Ohm; Operating Mode: Fundamental; PartId: 8685; Supplier 1: Digi-Key; Supplier Part Number 1: 887-1275-2-ND; ComponentLink1Description: Datasheet; ComponentLink1URL: http://www.txccrystal.com/images/pdf/9c-accuracy.pdf; ComponentLink2Description: Digi-Key Listing; ComponentLink2URL: https://www.digikey.com/product-detail/en/9C-16.384MEEJ-T/887-1275-2-ND/2207695; Price: 0.288; Type: MHz Crystal; Device Package: HC49/US; Series: 9C; Frequency: 16.384MHz; Frequency Tolerance: 10ppm; Load Capacitance: 18pF
footprint TXC 9C
pins: 1, 2

## 9C-18.432MAAJ-T
designator Y?, comment 18.432MHz
CRYSTAL 18.4320MHZ 18PF SMD; Part Number: 9C-18.432MAAJ-T; Manufacturer: TXC CORPORATION; Frequency Stability: 30ppm; ESR: 30 Ohm; Operating Mode: Fundamental; PartId: 8670; Supplier 1: Digi-Key; Supplier Part Number 1: 887-1061-2-ND; ComponentLink1Description: Datasheet; ComponentLink1URL: http://www.txccrystal.com/images/pdf/9c.pdf; ComponentLink2Description: Digi-Key Listing; ComponentLink2URL: https://www.digikey.com/product-detail/en/9C-18.432MAAJ-T/887-1061-2-ND/2118745; Price: 0.224; Type: MHz Crystal; Device Package: HC49/US; Series: 9C; Frequency: 18.432MHz; Frequency Tolerance: 30ppm; Load Capacitance: 18pF
footprint TXC 9C
pins: 1, 2

## 9C-18.432MBBK-T
designator Y?, comment 18.432MHz
CRYSTAL 18.4320MHZ 20PF SMD; Part Number: 9C-18.432MBBK-T; Manufacturer: TXC CORPORATION; Frequency Stability: 50ppm; ESR: 30 Ohm; Operating Mode: Fundamental; PartId: 8686; Supplier 1: Digi-Key; Supplier Part Number 1: 887-1945-2-ND; ComponentLink1Description: Datasheet; ComponentLink1URL: http://www.txccrystal.com/images/pdf/9c.pdf; ComponentLink2Description: Digi-Key Listing; ComponentLink2URL: https://www.digikey.com/product-detail/en/9C-18.432MBBK-T/887-1945-2-ND/3521937; Price: 0.192; Type: MHz Crystal; Device Package: HC-49S; Series: 9C; Frequency: 18.432MHz; Frequency Tolerance: 50ppm; Load Capacitance: 20pF
footprint TXC 9C
pins: 1, 2

## 9C-18.432MEEJ-T
designator Y?, comment 18.432MHz
CRYSTAL 18.4320MHZ 18PF SMD; Part Number: 9C-18.432MEEJ-T; Manufacturer: TXC CORPORATION; Frequency Stability: 10ppm; ESR: 30 Ohm; Operating Mode: Fundamental; PartId: 8730; Supplier 1: Digi-Key; Supplier Part Number 1: 887-1276-2-ND; ComponentLink1Description: Datasheet; ComponentLink1URL: http://www.txccrystal.com/images/pdf/9c-accuracy.pdf; ComponentLink2Description: Digi-Key Listing; ComponentLink2URL: https://www.digikey.com/product-detail/en/9C-18.432MEEJ-T/887-1276-2-ND/2207696; Price: 0.288; Type: MHz Crystal; Device Package: HC49/US; Series: 9C; Frequency: 18.432MHz; Frequency Tolerance: 10ppm; Load Capacitance: 18pF
footprint TXC 9C
pins: 1, 2

## 9C-19.200MAAJ-T
designator Y?, comment 19.2MHz
CRYSTAL 19.2000MHZ 18PF SMD; Part Number: 9C-19.200MAAJ-T; Manufacturer: TXC CORPORATION; Frequency Stability: 30ppm; ESR: 30 Ohm; Operating Mode: Fundamental; PartId: 8674; Supplier 1: Digi-Key; Supplier Part Number 1: 887-1062-2-ND; ComponentLink1Description: Datasheet; ComponentLink1URL: http://www.txccrystal.com/images/pdf/9c.pdf; ComponentLink2Description: Digi-Key Listing; ComponentLink2URL: https://www.digikey.com/product-detail/en/9C-19.200MAAJ-T/887-1062-2-ND/2118746; Price: 0.224; Type: MHz Crystal; Device Package: HC49/US; Series: 9C; Frequency: 19.2MHz; Frequency Tolerance: 30ppm; Load Capacitance: 18pF
footprint TXC 9C
pins: 1, 2

## 9C-19.6608MBBK-T
designator Y?, comment 19.6608MHz
CRYSTAL 19.6608MHZ 20PF SMD; Part Number: 9C-19.6608MBBK-T; Manufacturer: TXC CORPORATION; Frequency Stability: 50ppm; ESR: 30 Ohm; Operating Mode: Fundamental; PartId: 8698; Supplier 1: Digi-Key; Supplier Part Number 1: 887-1824-2-ND; ComponentLink1Description: Datasheet; ComponentLink1URL: http://www.txccrystal.com/images/pdf/9c.pdf; ComponentLink2Description: Digi-Key Listing; ComponentLink2URL: https://www.digikey.com/product-detail/en/9C-19.6608MBBK-T/887-1824-2-ND/3585874; Price: 0.192; Type: MHz Crystal; Device Package: HC-49S; Series: 9C; Frequency: 19.6608MHz; Frequency Tolerance: 50ppm; Load Capacitance: 20pF
footprint TXC 9C
pins: 1, 2

## 9C-20.000MAAJ-T
designator Y?, comment 20MHz
CRYSTAL 20.0000MHZ 18PF SMD; Part Number: 9C-20.000MAAJ-T; Manufacturer: TXC CORPORATION; Frequency Stability: 30ppm; ESR: 30 Ohm; Operating Mode: Fundamental; PartId: 8675; Supplier 1: Digi-Key; Supplier Part Number 1: 887-1063-2-ND; ComponentLink1Description: Datasheet; ComponentLink1URL: http://www.txccrystal.com/images/pdf/9c.pdf; ComponentLink2Description: Digi-Key Listing; ComponentLink2URL: https://www.digikey.com/product-detail/en/9C-20.000MAAJ-T/887-1063-2-ND/2118747; Price: 0.224; Type: MHz Crystal; Device Package: HC49/US; Series: 9C; Frequency: 20MHz; Frequency Tolerance: 30ppm; Load Capacitance: 18pF
footprint TXC 9C
pins: 1, 2

## 9C-20.000MAGJ-T
designator Y?, comment 20MHz
CRYSTAL 20.0000MHZ 18PF SMD; Part Number: 9C-20.000MAGJ-T; Manufacturer: TXC CORPORATION; Frequency Stability: 50ppm; Frequency Tolerance: 30ppm; ESR: 30 Ohm; Operating Mode: Fundamental; PartId: 8713; Supplier 1: Digi-Key; Supplier Part Number 1: 887-2433-2-ND; ComponentLink1Description: Datasheet; ComponentLink1URL: http://www.txccrystal.com/images/pdf/9c.pdf; ComponentLink2Description: Digi-Key Listing; ComponentLink2URL: https://www.digikey.com/product-detail/en/9C-20.000MAGJ-T/887-2433-2-ND/4475358; Price: 0.208; Type: MHz Crystal; Device Package: HC-49S; Series: 9C; Frequency: 20MHz; Load Capacitance: 18pF
footprint TXC 9C
pins: 1, 2

## 9C-22.000MAAJ-T
designator Y?, comment 22MHz
CRYSTAL 22.0000MHZ 18PF SMD; Part Number: 9C-22.000MAAJ-T; Manufacturer: TXC CORPORATION; Frequency Stability: 30ppm; ESR: 30 Ohm; Operating Mode: Fundamental; PartId: 8697; Supplier 1: Digi-Key; Supplier Part Number 1: 887-1064-2-ND; ComponentLink1Description: Datasheet; ComponentLink1URL: http://www.txccrystal.com/images/pdf/9c.pdf; ComponentLink2Description: Digi-Key Listing; ComponentLink2URL: https://www.digikey.com/product-detail/en/9C-22.000MAAJ-T/887-1064-2-ND/2118748; Price: 0.224; Type: MHz Crystal; Device Package: HC49/US; Series: 9C; Frequency: 22MHz; Frequency Tolerance: 30ppm; Load Capacitance: 18pF
footprint TXC 9C
pins: 1, 2

## 9C-22.1184MAAE-T
designator Y?, comment 22.1184MHz
CRYSTAL 22.1184MHZ 12PF SMD; Part Number: 9C-22.1184MAAE-T; Manufacturer: TXC CORPORATION; Frequency Stability: 30ppm; ESR: 30 Ohm; Operating Mode: Fundamental; PartId: 8712; Supplier 1: Digi-Key; Supplier Part Number 1: 887-1933-2-ND; ComponentLink1Description: Datasheet; ComponentLink1URL: http://www.txccrystal.com/images/pdf/9c.pdf; ComponentLink2Description: Digi-Key Listing; ComponentLink2URL: https://www.digikey.com/product-detail/en/9C-22.1184MAAE-T/887-1933-2-ND/3679807; Price: 0.208; Type: MHz Crystal; Device Package: HC-49S; Series: 9C; Frequency: 22.1184MHz; Frequency Tolerance: 30ppm; Load Capacitance: 12pF
footprint TXC 9C
pins: 1, 2

## 9C-22.1184MBBK-T
designator Y?, comment 22.1184MHz
CRYSTAL 22.1184MHZ 20PF SMD; Part Number: 9C-22.1184MBBK-T; Manufacturer: TXC CORPORATION; Frequency Stability: 50ppm; ESR: 30 Ohm; Operating Mode: Fundamental; PartId: 8689; Supplier 1: Digi-Key; Supplier Part Number 1: 887-2437-2-ND; ComponentLink1Description: Datasheet; ComponentLink1URL: http://www.txccrystal.com/images/pdf/9c.pdf; ComponentLink2Description: Digi-Key Listing; ComponentLink2URL: https://www.digikey.com/product-detail/en/9C-22.1184MBBK-T/887-2437-2-ND/3521991; Price: 0.192; Type: MHz Crystal; Device Package: HC-49S; Series: 9C; Frequency: 22.1184MHz; Frequency Tolerance: 50ppm; Load Capacitance: 20pF
footprint TXC 9C
pins: 1, 2

## 9C-24.000MAAJ-T
designator Y?, comment 24MHz
CRYSTAL 24.0000MHZ 18PF SMD; Part Number: 9C-24.000MAAJ-T; Manufacturer: TXC CORPORATION; Frequency Stability: 30ppm; ESR: 30 Ohm; Operating Mode: Fundamental; PartId: 8673; Supplier 1: Digi-Key; Supplier Part Number 1: 887-1066-2-ND; ComponentLink1Description: Datasheet; ComponentLink1URL: http://www.txccrystal.com/images/pdf/9c.pdf; ComponentLink2Description: Digi-Key Listing; ComponentLink2URL: https://www.digikey.com/product-detail/en/9C-24.000MAAJ-T/887-1066-2-ND/2118750; Price: 0.224; Type: MHz Crystal; Device Package: HC49/US; Series: 9C; Frequency: 24MHz; Frequency Tolerance: 30ppm; Load Capacitance: 18pF
footprint TXC 9C
pins: 1, 2

## 9C-24.000MEEJ-T
designator Y?, comment 24MHz
CRYSTAL 24.0000MHZ 18PF SMD; Part Number: 9C-24.000MEEJ-T; Manufacturer: TXC CORPORATION; Frequency Stability: 10ppm; ESR: 30 Ohm; Operating Mode: Fundamental; PartId: 8680; Supplier 1: Digi-Key; Supplier Part Number 1: 887-1281-2-ND; ComponentLink1Description: Datasheet; ComponentLink1URL: http://www.txccrystal.com/images/pdf/9c-accuracy.pdf; ComponentLink2Description: Digi-Key Listing; ComponentLink2URL: https://www.digikey.com/product-detail/en/9C-24.000MEEJ-T/887-1281-2-ND/2207701; Price: 0.288; Type: MHz Crystal; Device Package: HC49/US; Series: 9C; Frequency: 24MHz; Frequency Tolerance: 10ppm; Load Capacitance: 18pF
footprint TXC 9C
pins: 1, 2

## 9C-24.576MBBK-T
designator Y?, comment 24.576MHz
CRYSTAL 24.5760MHZ 20PF SMD; Part Number: 9C-24.576MBBK-T; Manufacturer: TXC CORPORATION; Frequency Stability: 50ppm; ESR: 30 Ohm; Operating Mode: Fundamental; PartId: 8705; Supplier 1: Digi-Key; Supplier Part Number 1: 887-1825-2-ND; ComponentLink1Description: Datasheet; ComponentLink1URL: http://www.txccrystal.com/images/pdf/9c.pdf; ComponentLink2Description: Digi-Key Listing; ComponentLink2URL: https://www.digikey.com/product-detail/en/9C-24.576MBBK-T/887-1825-2-ND/3585876; Price: 0.192; Type: MHz Crystal; Device Package: HC-49S; Series: 9C; Frequency: 24.576MHz; Frequency Tolerance: 50ppm; Load Capacitance: 20pF
footprint TXC 9C
pins: 1, 2

## 9C-24.576MEEJ-T
designator Y?, comment 24.576MHz
CRYSTAL 24.5760MHZ 18PF SMD; Part Number: 9C-24.576MEEJ-T; Manufacturer: TXC CORPORATION; Frequency Stability: 10ppm; ESR: 30 Ohm; Operating Mode: Fundamental; PartId: 8731; Supplier 1: Digi-Key; Supplier Part Number 1: 887-1282-2-ND; ComponentLink1Description: Datasheet; ComponentLink1URL: http://www.txccrystal.com/images/pdf/9c-accuracy.pdf; ComponentLink2Description: Digi-Key Listing; ComponentLink2URL: https://www.digikey.com/product-detail/en/9C-24.576MEEJ-T/887-1282-2-ND/2207702; Price: 0.288; Type: MHz Crystal; Device Package: HC49/US; Series: 9C; Frequency: 24.576MHz; Frequency Tolerance: 10ppm; Load Capacitance: 18pF
footprint TXC 9C
pins: 1, 2

## 9C-25.000MAAJ-T
designator Y?, comment 25MHz
CRYSTAL 25.0000MHZ 18PF SMD; Part Number: 9C-25.000MAAJ-T; Manufacturer: TXC CORPORATION; Frequency Stability: 30ppm; ESR: 30 Ohm; Operating Mode: Fundamental; PartId: 8660; Supplier 1: Digi-Key; Supplier Part Number 1: 887-1068-2-ND; ComponentLink1Description: Datasheet; ComponentLink1URL: http://www.txccrystal.com/images/pdf/9c.pdf; ComponentLink2Description: Digi-Key Listing; ComponentLink2URL: https://www.digikey.com/product-detail/en/9C-25.000MAAJ-T/887-1068-2-ND/2118752; Price: 0.224; Type: MHz Crystal; Device Package: HC49/US; Series: 9C; Frequency: 25MHz; Frequency Tolerance: 30ppm; Load Capacitance: 18pF
footprint TXC 9C
pins: 1, 2

## 9C-25.000MAAK-T
designator Y?, comment 25MHz
CRYSTAL 25.0000MHZ 20PF SMD; Part Number: 9C-25.000MAAK-T; Manufacturer: TXC CORPORATION; Frequency Stability: 30ppm; ESR: 30 Ohm; Operating Mode: Fundamental; PartId: 8709; Supplier 1: Digi-Key; Supplier Part Number 1: 887-1517-2-ND; ComponentLink1Description: Datasheet; ComponentLink1URL: http://www.txccrystal.com/images/pdf/9c.pdf; ComponentLink2Description: Digi-Key Listing; ComponentLink2URL: https://www.digikey.com/product-detail/en/9C-25.000MAAK-T/887-1517-2-ND/2690370; Price: 0.208; Type: MHz Crystal; Device Package: HC49/US; Series: 9C; Frequency: 25MHz; Frequency Tolerance: 30ppm; Load Capacitance: 20pF
footprint TXC 9C
pins: 1, 2

## 9C-25.000MEEJ-T
designator Y?, comment 25MHz
CRYSTAL 25.0000MHZ 18PF SMD; Part Number: 9C-25.000MEEJ-T; Manufacturer: TXC CORPORATION; Frequency Stability: 10ppm; ESR: 30 Ohm; Operating Mode: Fundamental; PartId: 8663; Supplier 1: Digi-Key; Supplier Part Number 1: 887-1283-2-ND; ComponentLink1Description: Datasheet; ComponentLink1URL: http://www.txccrystal.com/images/pdf/9c-accuracy.pdf; ComponentLink2Description: Digi-Key Listing; ComponentLink2URL: https://www.digikey.com/product-detail/en/9C-25.000MEEJ-T/887-1283-2-ND/2207703; Price: 0.288; Type: MHz Crystal; Device Package: HC49/US; Series: 9C; Frequency: 25MHz; Frequency Tolerance: 10ppm; Load Capacitance: 18pF
footprint TXC 9C
pins: 1, 2

## 9C-26.000MAAJ-T
designator Y?, comment 26MHz
CRYSTAL 26.0000MHZ 18PF SMD; Part Number: 9C-26.000MAAJ-T; Manufacturer: TXC CORPORATION; Frequency Stability: 30ppm; ESR: 30 Ohm; Operating Mode: Fundamental; PartId: 8667; Supplier 1: Digi-Key; Supplier Part Number 1: 887-1069-2-ND; ComponentLink1Description: Datasheet; ComponentLink1URL: http://www.txccrystal.com/images/pdf/9c.pdf; ComponentLink2Description: Digi-Key Listing; ComponentLink2URL: https://www.digikey.com/product-detail/en/9C-26.000MAAJ-T/887-1069-2-ND/2118753; Price: 0.224; Type: MHz Crystal; Device Package: HC49/US; Series: 9C; Frequency: 26MHz; Frequency Tolerance: 30ppm; Load Capacitance: 18pF
footprint TXC 9C
pins: 1, 2

## 9C-26.000MEEJ-T
designator Y?, comment 26MHz
CRYSTAL 26.0000MHZ 18PF SMD; Part Number: 9C-26.000MEEJ-T; Manufacturer: TXC CORPORATION; Frequency Stability: 10ppm; ESR: 30 Ohm; Operating Mode: Fundamental; PartId: 8681; Supplier 1: Digi-Key; Supplier Part Number 1: 887-1284-2-ND; ComponentLink1Description: Datasheet; ComponentLink1URL: http://www.txccrystal.com/images/pdf/9c-accuracy.pdf; ComponentLink2Description: Digi-Key Listing; ComponentLink2URL: https://www.digikey.com/product-detail/en/9C-26.000MEEJ-T/887-1284-2-ND/2207704; Price: 0.288; Type: MHz Crystal; Device Package: HC49/US; Series: 9C; Frequency: 26MHz; Frequency Tolerance: 10ppm; Load Capacitance: 18pF
footprint TXC 9C
pins: 1, 2

## 9C-27.000MAAJ-T
designator Y?, comment 27MHz
CRYSTAL 27.0000MHZ 18PF SMD; Part Number: 9C-27.000MAAJ-T; Manufacturer: TXC CORPORATION; Frequency Stability: 30ppm; ESR: 30 Ohm; Operating Mode: Fundamental; PartId: 8693; Supplier 1: Digi-Key; Supplier Part Number 1: 887-1070-2-ND; ComponentLink1Description: Datasheet; ComponentLink1URL: http://www.txccrystal.com/images/pdf/9c.pdf; ComponentLink2Description: Digi-Key Listing; ComponentLink2URL: https://www.digikey.com/product-detail/en/9C-27.000MAAJ-T/887-1070-2-ND/2118754; Price: 0.224; Type: MHz Crystal; Device Package: HC49/US; Series: 9C; Frequency: 27MHz; Frequency Tolerance: 30ppm; Load Capacitance: 18pF
footprint TXC 9C
pins: 1, 2

## 9C-27.000MEEJ-T
designator Y?, comment 27MHz
CRYSTAL 27.0000MHZ 18PF SMD; Part Number: 9C-27.000MEEJ-T; Manufacturer: TXC CORPORATION; Frequency Stability: 10ppm; ESR: 30 Ohm; Operating Mode: Fundamental; PartId: 8728; Supplier 1: Digi-Key; Supplier Part Number 1: 887-1285-2-ND; ComponentLink1Description: Datasheet; ComponentLink1URL: http://www.txccrystal.com/images/pdf/9c-accuracy.pdf; ComponentLink2Description: Digi-Key Listing; ComponentLink2URL: https://www.digikey.com/product-detail/en/9C-27.000MEEJ-T/887-1285-2-ND/2207705; Price: 0.288; Type: MHz Crystal; Device Package: HC49/US; Series: 9C; Frequency: 27MHz; Frequency Tolerance: 10ppm; Load Capacitance: 18pF
footprint TXC 9C
pins: 1, 2

## 9C-27.120MAAJ-T
designator Y?, comment 27.12MHz
CRYSTAL 27.1200MHZ 18PF SMD; Part Number: 9C-27.120MAAJ-T; Manufacturer: TXC CORPORATION; Frequency Stability: 30ppm; ESR: 30 Ohm; Operating Mode: Fundamental; PartId: 8721; Supplier 1: Digi-Key; Supplier Part Number 1: 887-2446-2-ND; ComponentLink1Description: Datasheet; ComponentLink1URL: http://www.txccrystal.com/images/pdf/9c.pdf; ComponentLink2Description: Digi-Key Listing; ComponentLink2URL: https://www.digikey.com/product-detail/en/9C-27.120MAAJ-T/887-2446-2-ND/4475364; Price: 0.224; Type: MHz Crystal; Device Package: HC-49S; Series: 9C; Frequency: 27.12MHz; Frequency Tolerance: 30ppm; Load Capacitance: 18pF
footprint TXC 9C
pins: 1, 2

## 9C-28.63636MAAE-T
designator Y?, comment 28.63636MHz
CRYSTAL 28.63636MHZ 12PF SMD; Part Number: 9C-28.63636MAAE-T; Manufacturer: TXC CORPORATION; Frequency Stability: 30ppm; ESR: 30 Ohm; Operating Mode: Fundamental; PartId: 8708; Supplier 1: Digi-Key; Supplier Part Number 1: 887-1935-2-ND; ComponentLink1Description: Datasheet; ComponentLink1URL: http://www.txccrystal.com/images/pdf/9c.pdf; ComponentLink2Description: Digi-Key Listing; ComponentLink2URL: https://www.digikey.com/product-detail/en/9C-28.63636MAAE-T/887-1935-2-ND/3679809; Price: 0.208; Type: MHz Crystal; Device Package: HC-49S; Series: 9C; Frequency: 28.63636MHz; Frequency Tolerance: 30ppm; Load Capacitance: 12pF
footprint TXC 9C
pins: 1, 2

## 9C-28.63636MAAJ-T
designator Y?, comment 28.63636MHz
CRYSTAL 28.63636MHZ 18PF SMD; Part Number: 9C-28.63636MAAJ-T; Manufacturer: TXC CORPORATION; Frequency Stability: 30ppm; ESR: 30 Ohm; Operating Mode: Fundamental; PartId: 8722; Supplier 1: Digi-Key; Supplier Part Number 1: 887-1071-2-ND; ComponentLink1Description: Datasheet; ComponentLink1URL: http://www.txccrystal.com/images/pdf/9c.pdf; ComponentLink2Description: Digi-Key Listing; ComponentLink2URL: https://www.digikey.com/product-detail/en/9C-28.63636MAAJ-T/887-1071-2-ND/2118755; Price: 0.224; Type: MHz Crystal; Device Package: HC49/US; Series: 9C; Frequency: 28.63636MHz; Frequency Tolerance: 30ppm; Load Capacitance: 18pF
footprint TXC 9C
pins: 1, 2

## 9C-28.63636MBBK-T
designator Y?, comment 28.63636MHz
CRYSTAL 28.63636MHZ 20PF SMD; Part Number: 9C-28.63636MBBK-T; Manufacturer: TXC CORPORATION; Frequency Stability: 50ppm; ESR: 30 Ohm; Operating Mode: Fundamental; PartId: 8699; Supplier 1: Digi-Key; Supplier Part Number 1: 887-1827-2-ND; ComponentLink1Description: Datasheet; ComponentLink1URL: http://www.txccrystal.com/images/pdf/9c.pdf; ComponentLink2Description: Digi-Key Listing; ComponentLink2URL: https://www.digikey.com/product-detail/en/9C-28.63636MBBK-T/887-1827-2-ND/3585880; Price: 0.192; Type: MHz Crystal; Device Package: HC-49S; Series: 9C; Frequency: 28.63636MHz; Frequency Tolerance: 50ppm; Load Capacitance: 20pF
footprint TXC 9C
pins: 1, 2